# EAGLE library part L3GD20H (library IMU_parts)
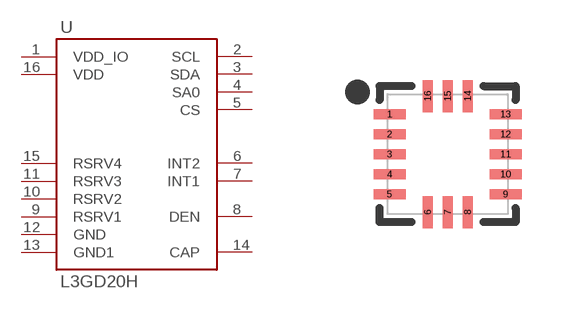
[diagram p0: symbol with the pads of LGA16_3X3MM; footprint LGA16_3X3MM]

Designator prefix -

## L3GD20H (CREATOR: Chris; REVIEWER1: Brandon)  [LGA16_3X3MM]
1  VDD_IO
2  SCL
3  SDA
4  SA0
5  CS
6  INT2
7  INT1
8  DEN
9  RSRV1
10  RSRV2
11  RSRV3
12  GND
13  GND1
14  CAP
15  RSRV4
16  VDD

## Footprint LGA16_3X3MM (pad centres in mm)
smd 0.8 x 0.25: 1 -1.45,1; 2 -1.45,0.5; 3 -1.45,0; 4 -1.45,-0.5; 5 -1.45,-1; 9 1.45,-1; 10 1.45,-0.5; 11 1.45,0; 12 1.45,0.5; 13 1.45,1
smd 0.25 x 0.8: 6 -0.5,-1.45; 7 0,-1.45; 8 0.5,-1.45; 14 0.5,1.45; 15 0,1.45; 16 -0.5,1.45